# EAGLE library part SWITCH-2P2T (library dragino)
SLIDE SWITCH 2P2T Part No. SS-22F05-G(A)4 Source: CANAL ELECTRONIC CO., LTD .. switsch.pdf
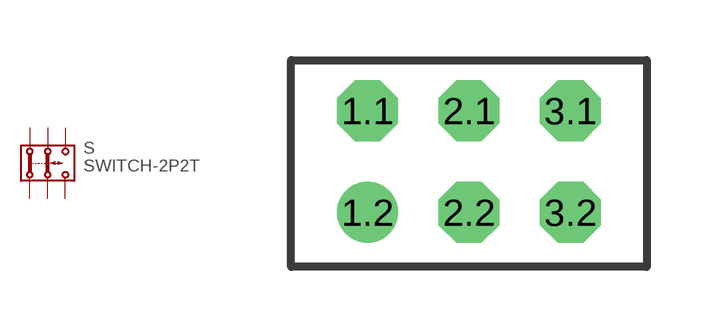
[diagram p3: symbol with the pads of 2P2T; footprint 2P2T]

Designator prefix S

## SWITCH-2P2T  [2P2T]
1.1  1.1  pas
1.2  1.2  pas
2.1  2.1  pas
2.2  2.2  pas
3.1  3.1  pas
3.2  3.2  pas

## Footprint 2P2T (pad centres in mm)
drill 1.016 octagon: 1.1 -5.08,1.27; 2.1 -2.54,1.27; 2.2 -2.54,-1.27; 3.1 0,1.27; 3.2 0,-1.27
drill 1.016: 1.2 -5.08,-1.27